# Altium footprint library 2020-06-14_22-37-07.PcbLib: 1 footprints
Each footprint in its own frame and in the unit in brackets; x right, y up, seen from the top. Pads: shape width x height; smd on the part's side, far side on the other; paste and mask are expansions set on the pad; w line width, h text height; cw(c..) or ccw(c..) is an arc to the next point about the centre after c.
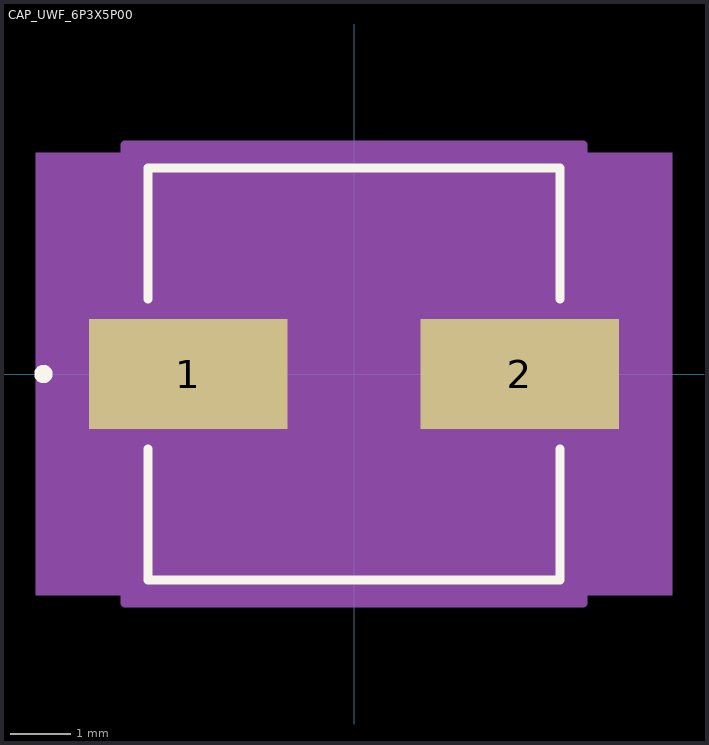
[diagram p0: the footprint, top view; thin cyan lines are the x and y axes]

## CAP_UWF_6P3X5P00 [mil]
pads (2):
  rect 130x72 smd paste+0 mask+0: 1(-108.5,0) 2(108.5,0)
Top Overlay:
  circle w6: c-203.5,0 r3
  lines w6: -135,-49.1 -135,-135 135,-135 135,-49.1 ; -135,49.1 -135,135 135,135 135,49.1
Mechanical 5:
  region: 208.5,-145 -208.5,-145 -208.5,145 208.5,145
Mechanical 13:
  circle w0: c-110,0 r3
  lines w1: -130,-65 -65,-130 ; -130,65 -65,130 ; -130,-130 -130,130 130,130 130,-130 -130,-130
Mechanical 15:
  region: -150,-56 -193.5,-56 -193.5,56 -150,56 -150,150 150,150 150,56 193.5,56 193.5,-56 150,-56 150,-150 -150,-150
  lines w6: -193.5,-56 -150,-56 -150,-150 150,-150 150,-56 193.5,-56 193.5,56 150,56 150,150 -150,150 -150,56 -193.5,56 -193.5,-56
3D body: height 10, standoff 0, extent 0,0 10,10